# Altium integrated library HSMW-C191.IntLib: 1 symbol
Pins are listed as number, name and electrical type; pins without a type are passive.

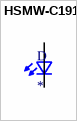
[diagram p0: symbol HSMW-C191]

## HSMW-C191
designator D
White LED Indication - Discrete 3.6V 0603 _1608 Metric_; MF: Broadcom Limited; MP: HSMW-C191; SnapEDA_Link: https://www.snapeda.com/parts/HSMW-C191/Broadcom%20Limited/view-part/1840124/?ref=snap; Price: None; Value: *; Package: 0603 Broadcom; Availability: Unavailable
footprint 0603
pins: 1 K2, 2 A2